# Altium schematic symbol library Quectel.SchLib: 5 symbols
Pins are listed as number, name and electrical type; pins without a type are passive.

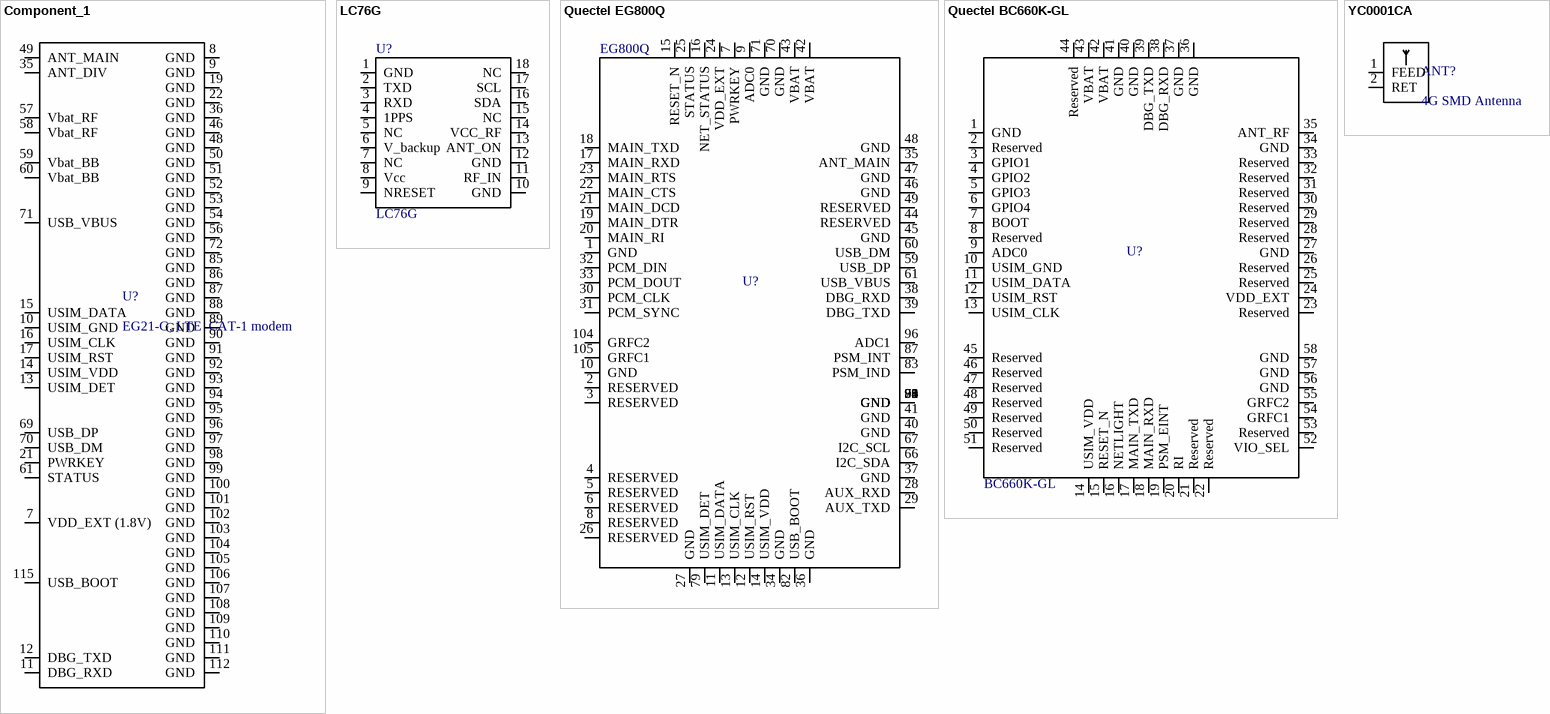
[diagram p0: symbols Component_1 to YC0001CA]

## Component_1
designator U?, comment EG21-G, LTE  CAT-1 modem
Manufacturer: Quectel; Part Number: EG21-G; Price 1: 45; Price 100: 40; Price 1000: 35
footprint EC2x_EG2x-G_UC200T_no_wifi_no_eth (universal footprint for EC2x, EG2x-G, UC200T, no wifi and no ethernet pads)
pins: 7 VDD_EXT (1.8V), 8 GND, 9 GND, 10 USIM_GND, 11 DBG_RXD, 12 DBG_TXD, 13 USIM_DET, 14 USIM_VDD, 15 USIM_DATA, 16 USIM_CLK, 17 USIM_RST, 19 GND, 21 PWRKEY, 22 GND, 35 ANT_DIV, 36 GND, 46 GND, 48 GND, 49 ANT_MAIN, 50 GND, 51 GND, 52 GND, 53 GND, 54 GND, 56 GND, 57 Vbat_RF, 58 Vbat_RF, 59 Vbat_BB, 60 Vbat_BB, 61 STATUS, 69 USB_DP, 70 USB_DM, 71 USB_VBUS, 72 GND, 85 GND, 86 GND, 87 GND, 88 GND, 89 GND, 90 GND, 91 GND, 92 GND, 93 GND, 94 GND, 95 GND, 96 GND, 97 GND, 98 GND, 99 GND, 100 GND, 101 GND, 102 GND, 103 GND, 104 GND, 105 GND, 106 GND, 107 GND, 108 GND, 109 GND, 110 GND, 111 GND, 112 GND, 115 USB_BOOT

## LC76G
designator U?, comment Part Number: LC76G  (hidden comment: GPS module)
Manufacturer: Quectel; Price 1: 7; Price 100: 7; Price 1000: 6
footprint LC76G (LC76G without SPI pins - standard pinout)
pins: 1 GND, 2 TXD, 3 RXD, 4 1PPS, 5 NC, 6 V_backup, 7 NC, 8 Vcc, 9 NRESET, 10 GND, 11 RF_IN, 12 GND, 13 ANT_ON, 14 VCC_RF, 15 NC, 16 SDA, 17 SCL, 18 NC

## Quectel EG800Q
designator U?, comment Part Number: EG800Q  (hidden comment: EG800Q, LTE, CAT-M1 modem)
Manufacturer: Quectel; Price 1: 24; Price 100: 19; Price 1000: 19
footprint EG800Q (LTE module)
pins: 1 GND, 2 RESERVED, 3 RESERVED, 4 RESERVED, 5 RESERVED, 6 RESERVED, 7 PWRKEY, 8 RESERVED, 9 ADC0, 10 GND, 11 USIM_DATA, 12 USIM_RST, 13 USIM_CLK, 14 USIM_VDD, 15 RESET_N, 16 NET_STATUS, 17 MAIN_RXD, 18 MAIN_TXD, 19 MAIN_DTR, 20 MAIN_RI, 21 MAIN_DCD, 22 MAIN_CTS, 23 MAIN_RTS, 24 VDD_EXT, 25 STATUS, 26 RESERVED, 27 GND, 28 AUX_RXD, 29 AUX_TXD, 30 PCM_CLK, 31 PCM_SYNC, 32 PCM_DIN, 33 PCM_DOUT, 34 GND, 35 ANT_MAIN, 36 GND, 37 GND, 38 DBG_RXD, 39 DBG_TXD, 40 GND, 41 GND, 42 VBAT, 43 VBAT, 44 RESERVED, 45 GND, 46 GND, 47 GND, 48 GND, 49 RESERVED, 59 USB_DP, 60 USB_DM, 61 USB_VBUS, 66 I2C_SDA, 67 I2C_SCL, 70 GND, 71 GND, 72 GND, 73 GND, 79 USIM_DET, 82 USB_BOOT, 83 PSM_IND, 87 PSM_INT, 88 GND, 89 GND, 90 GND, 91 GND, 92 GND, 93 GND, 94 GND, 95 GND, 96 ADC1, 104 GRFC2, 105 GRFC1

## Quectel BC660K-GL
designator U?, comment BC660K-GL
NB-IoT module; Manufacturer: Quectel; Price 1: 12.6; Price 100: 9.6; Price 1000: 9.2; Part Number: BC660K-GL
footprint BC660K-GL (NB-IoT Quectel footprint)
pins: 1 GND, 2 Reserved, 3 GPIO1, 4 GPIO2, 5 GPIO3, 6 GPIO4, 7 BOOT, 8 Reserved, 9 ADC0, 10 USIM_GND, 11 USIM_DATA, 12 USIM_RST, 13 USIM_CLK, 14 USIM_VDD, 15 RESET_N, 16 NETLIGHT, 17 MAIN_TXD, 18 MAIN_RXD, 19 PSM_EINT, 20 RI, 21 Reserved, 22 Reserved, 23 Reserved, 24 VDD_EXT, 25 Reserved, 26 Reserved, 27 GND, 28 Reserved, 29 Reserved, 30 Reserved, 31 Reserved, 32 Reserved, 33 Reserved, 34 GND, 35 ANT_RF, 36 GND, 37 GND, 38 DBG_RXD, 39 DBG_TXD, 40 GND, 41 GND, 42 VBAT, 43 VBAT, 44 Reserved, 45 Reserved, 46 Reserved, 47 Reserved, 48 Reserved, 49 Reserved, 50 Reserved, 51 Reserved, 52 VIO_SEL, 53 Reserved, 54 GRFC1, 55 GRFC2, 56 GND, 57 GND, 58 GND

## YC0001CA
designator ANT?, comment 4G SMD Antenna
Manufacturer: Quectel; Part Number: YC0001CA; Price 1: 0.577; Price 100: 0.44; Price 1000: 0.345
footprint YC0001CA (4G SMD Antenna)
pins: 1 FEED, 2 RET